# EAGLE library part 8PHEADR_DEV (library PINHEADER)
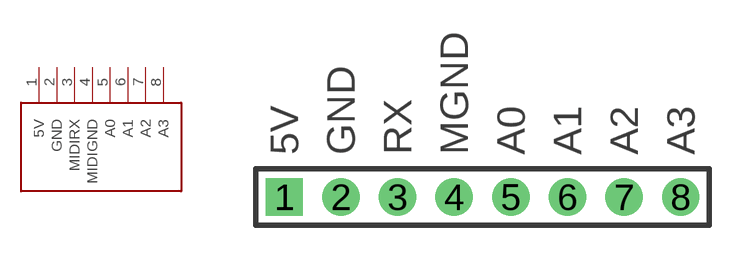
[diagram p0: symbol with the pads of 8PHEADER_PAC; footprint 8PHEADER_PAC]

Designator prefix -

## 8PHEADR_DEV  [8PHEADER_PAC]
1  5V  pwr
2  GND  sup
3  MIDIRX  out
4  MIDIGND  sup
5  A0
6  A1
7  A2
8  A3

## Footprint 8PHEADER_PAC (pad centres in mm)
drill 0.991 pad 1.676 square: 1 0,0
drill 0.991 pad 1.676 round: 2 2.54,0; 3 5.08,0; 4 7.62,0; 5 10.16,0; 6 12.7,0; 7 15.24,0; 8 17.78,0